# EAGLE library part LPF_GS (library CubeSat3)
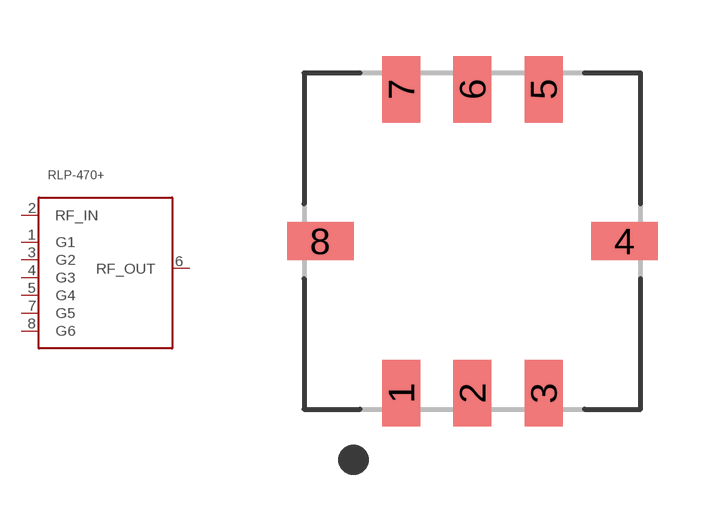
[diagram p2: symbol with the pads of PL-176; footprint PL-176]

Designator prefix -

## LPF_GS  [PL-176]
1  G1
2  RF_IN
3  G2
4  G3
5  G4
6  RF_OUT
7  G5
8  G6

## Footprint PL-176 (pad centres in mm)
smd 1.016 x 1.778: 1 -1.905,-4.064; 2 0,-4.064; 3 1.905,-4.064; 5 1.905,4.064; 6 0,4.064; 7 -1.905,4.064
smd 1.778 x 1.016: 4 4.064,0; 8 -4.064,0